# Altium schematic symbol library LM2575-3P3BU.SchLib: 2 symbols
Pins are listed as number, name and electrical type; pins without a type are passive.

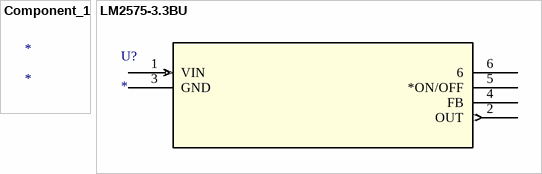
[diagram p0: symbols Component_1 to LM2575-3.3BU]

## Component_1
designator *

## LM2575-3.3BU
designator U?
No Description Available; Mfr_Name: Microchip; RefDes: RefDes; Type: Type
footprint TO-263-5_MCL
pins: 1 VIN (in), 2 OUT (out), 3 GND (power), 4 FB, 5 *ON/OFF, 6